# Altium footprint library IHLP2525CZER2R2M01.PcbLib: 1 footprints
Each footprint in its own frame and in the unit in brackets; x right, y up, seen from the top. Pads: shape width x height; smd on the part's side, far side on the other; paste and mask are expansions set on the pad; w line width, h text height; cw(c..) or ccw(c..) is an arc to the next point about the centre after c.
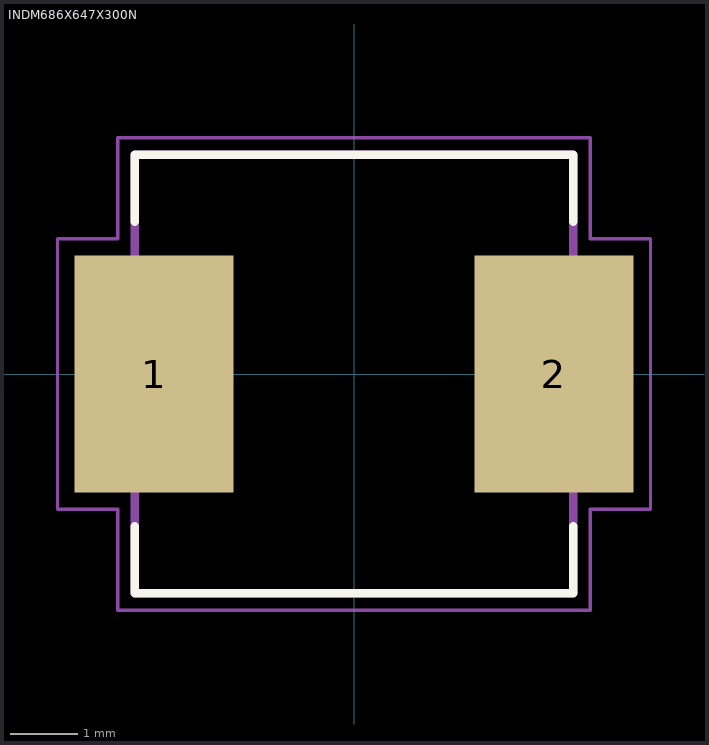
[diagram p0: the footprint, top view; thin cyan lines are the x and y axes]

## INDM686X647X300N [mm]
pads (2):
  rect 2.35x3.49 smd: 1(-2.95,0) 2(2.95,0)
Top Overlay:
  lines w0.127: -3.235,-2.25 -3.235,-3.235 3.235,-3.235 3.235,-2.25 ; -3.235,2.25 -3.235,3.235 3.235,3.235 3.235,2.25
Mechanical 13:
  lines w0.127: -3.235,-3.235 3.235,-3.235 3.235,3.235 -3.235,3.235 -3.235,-3.235
Mechanical 15:
  lines w0.05: -4.375,-1.995 -4.375,1.995 -3.485,1.995 -3.485,3.485 3.485,3.485 3.485,1.995 4.375,1.995 4.375,-1.995 3.485,-1.995 3.485,-3.485 -3.485,-3.485 -3.485,-1.995 -4.375,-1.995
3D body "step_temp.STEP": height 3, standoff 0, extent -3.429,-3.238 3.429,3.238